# Altium footprint library Passive#csv.PcbLib: 10 footprints
Each footprint in its own frame and in the unit in brackets; x right, y up, seen from the top. Pads: shape width x height; smd on the part's side, far side on the other; paste and mask are expansions set on the pad; w line width, h text height; cw(c..) or ccw(c..) is an arc to the next point about the centre after c.
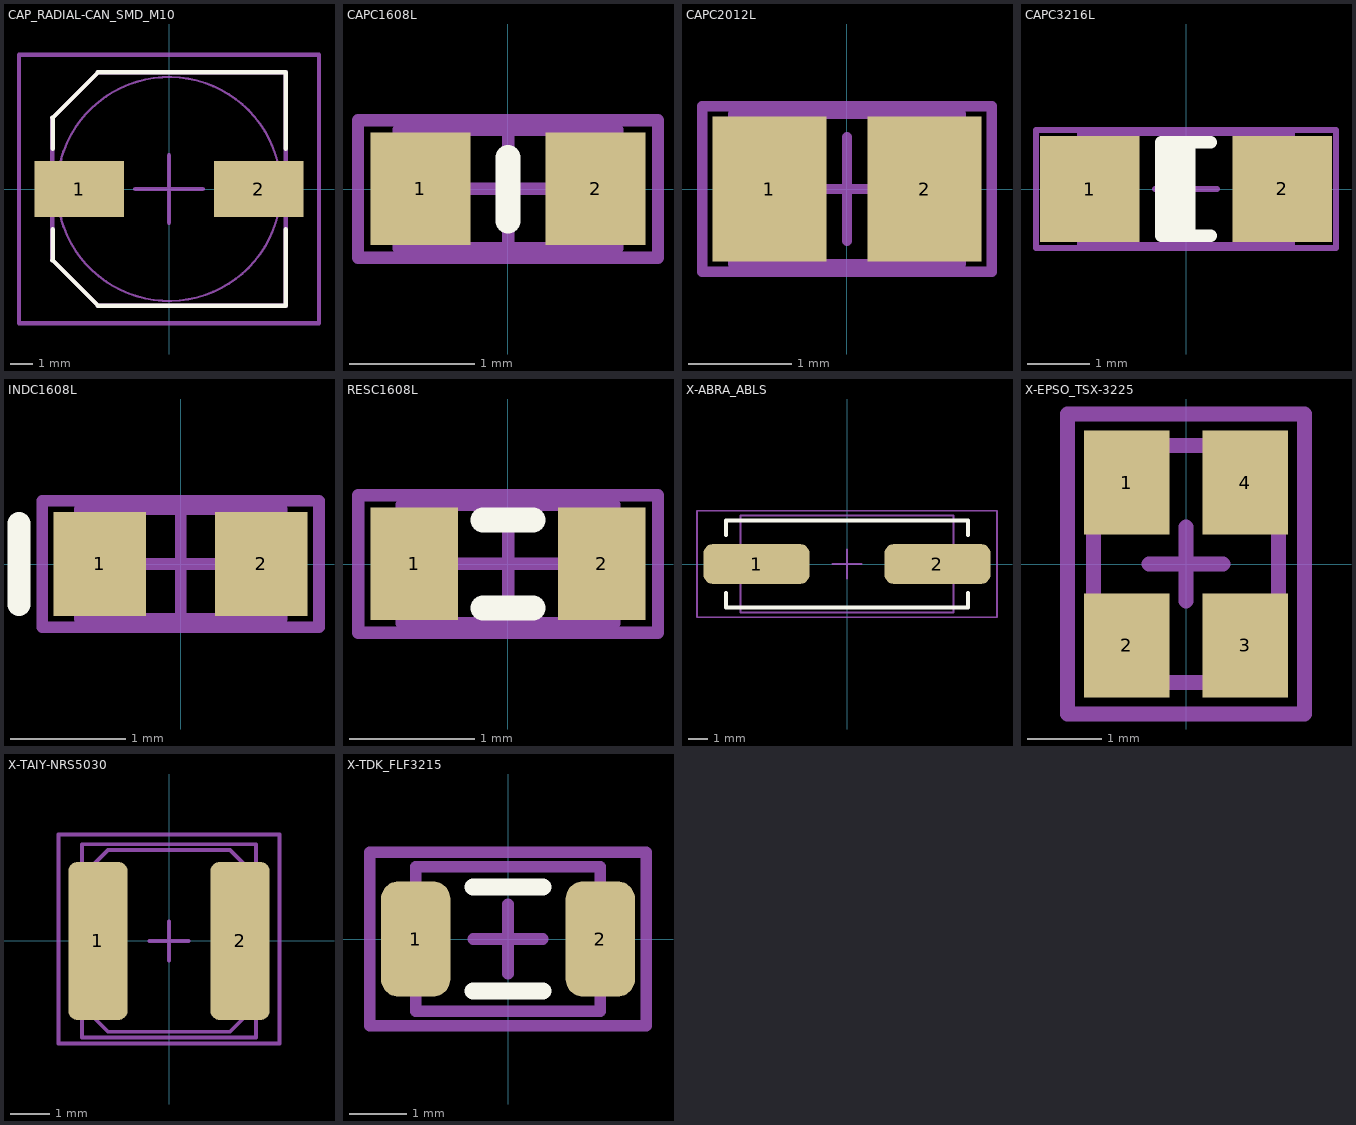
[diagram p0: the footprints below, top view; thin cyan lines are the x and y axes]

## CAP_RADIAL-CAN_SMD_M10 [mm]
pads (2):
  rect 4x2.5 smd: 1(-4,0) 2(4,0)
Top Overlay:
  lines w0.2: -5.2,-1.8 -5.2,-3.175 -5.207,-3.175 -3.175,-5.207 5.207,-5.207 5.207,-1.8 ; -5.2,1.8 -5.2,3.175 -5.207,3.175 -3.175,5.207 5.207,5.207 5.207,1.8
Mechanical 13:
  circle w0.1: c0,0 r5
  lines w0.2: -5.207,-3.175 -3.175,-5.207 5.207,-5.207 5.207,5.207 -3.175,5.207 -5.207,3.175 -5.207,-3.175
Mechanical 15:
  lines w0.2: -1.5,0 1.5,0 ; 0,-1.5 0,1.5 ; -6.7,-6 -6.7,6 6.7,6 6.7,-6 -6.7,-6
3D body: height 11, standoff 1, extent -4.953,-5.027 5.008,4.953
3D body: height 1, standoff 0, extent -5.207,-5.207 5.207,5.207

## CAPC1608L [mm] "Chip Capacitor, Body 1.6x0.8mm, IPC High Density"
height 0.85
pads (2):
  rect 0.8x0.9 smd: 1(-0.7,0) 2(0.7,0)
Top Overlay:
  lines w0.2: 0,-0.254 0,0.254
Mechanical 13:
  lines w0.1: -0.875,-0.475 0.875,-0.475 0.875,0.475 -0.875,0.475 -0.875,-0.475
Mechanical 15:
  lines w0.1: -0.475,0 0.475,0 ; 0,-0.475 0,0.475 ; -1.2,-0.55 1.2,-0.55 1.2,0.55 -1.2,0.55 -1.2,-0.55
3D body: height 0.85, standoff 0, extent -0.875,-0.475 0.875,0.475

## CAPC2012L [mm] "Chip Capacitor, Body 2.0x1.3mm, IPC High Density"
height 1.1
pads (2):
  rect 1.1x1.4 smd: 1(-0.75,0) 2(0.75,0)
Mechanical 13:
  lines w0.1: -1.1,-0.725 -1.1,0.725 1.1,0.725 1.1,-0.725 -1.1,-0.725
Mechanical 15:
  lines w0.1: -0.5,0 0.5,0 ; 0,-0.5 0,0.5 ; -1.4,-0.8 -1.4,0.8 1.4,0.8 1.4,-0.8 -1.4,-0.8
3D body: height 1.1, standoff 0, extent -1.1,-0.725 1.1,0.725

## CAPC3216L [mm] "Chip Capacitor, Body 3.2x1.6mm, IPC High Density"
height 1.35
pads (2):
  rect 1.6x1.7 smd: 1(-1.551,0) 2(1.551,0)
Top Overlay:
  rectangle: -0.4,-0.75 0.15,0.75
  lines w0.2: 0.4,-0.75 -0.4,-0.75 -0.4,0.75 0.4,0.75
Mechanical 13:
  lines w0.1: -1.7,-0.9 1.7,-0.9 1.7,0.9 -1.7,0.9 -1.7,-0.9
Mechanical 15:
  lines w0.1: -0.5,0 0.5,0 ; 0,-0.5 0,0.5 ; -2.413,-0.95 2.413,-0.95 2.413,0.95 -2.413,0.95 -2.413,-0.95
3D body: height 1.35, standoff 0, extent -1.7,-0.9 1.7,0.9

## INDC1608L [mm] "Chip Inductor, Body 1.6x0.8mm, IPC High Density"
height 0.71
pads (2):
  rect 0.8x0.9 smd: 1(-0.7,0) 2(0.7,0)
Top Overlay:
  lines w0.2: -1.4,-0.35 -1.4,0.35
Mechanical 13:
  lines w0.1: -0.875,-0.475 -0.875,0.475 0.875,0.475 0.875,-0.475 -0.875,-0.475
Mechanical 15:
  lines w0.1: -0.475,0 0.475,0 ; 0,-0.475 0,0.475 ; -1.2,-0.55 -1.2,0.55 1.2,0.55 1.2,-0.55 -1.2,-0.55
3D body: height 0.71, standoff 0, extent -0.875,-0.475 0.875,0.475

## RESC1608L [mm] "Chip Resistor, Body 1.6x0.8mm, IPC High Density"
height 0.6
pads (2):
  rect 0.7x0.9 smd: 1(-0.75,0) 2(0.75,0)
Top Overlay:
  lines w0.2: -0.2,-0.35 0.2,-0.35 ; -0.2,0.35 0.2,0.35
Mechanical 13:
  lines w0.1: -0.85,-0.475 0.85,-0.475 0.85,0.475 -0.85,0.475 -0.85,-0.475
Mechanical 15:
  lines w0.1: -0.475,0 0.475,0 ; 0,-0.475 0,0.475 ; -1.2,-0.55 1.2,-0.55 1.2,0.55 -1.2,0.55 -1.2,-0.55
3D body: height 0.6, standoff 0, extent -0.85,-0.475 0.85,0.475

## X-ABRA_ABLS [mil] "SMD Low Profile Crystal"
height 165.35
pads (2):
  rrect50% 220x83 smd: 1(-187,0) 2(187,0)
Top Overlay:
  lines w7.87: -250,-60 -250,-90 250,-90 250,-60 ; -250,60 -250,90 250,90 250,60
Mechanical 13:
  lines w3.94: -220,-100 220,-100 220,100 -220,100 -220,-100
Mechanical 15:
  lines w3.94: -30,0 30,0 ; 0,-30 0,30 ; -310,-110 -310,110 310,110 310,-110 -310,-110
3D body: height 160, standoff -4, extent -250,-90 250,95

## X-EPSO_TSX-3225 [mm] "Miniature crystal unit"
height 0.6
pads (4):
  rect 1.15x1.4 smd: 1(-0.8,1.1) 2(-0.8,-1.1) 3(0.8,-1.1) 4(0.8,1.1)
Mechanical 13:
  lines w0.2: -1.25,-1.6 1.25,-1.6 1.25,1.6 -1.25,1.6 -1.25,-1.6
Mechanical 15:
  lines w0.2: -0.5,0 0.5,0 ; 0,-0.5 0,0.5 ; -1.6,-2.025 1.6,-2.025 1.6,2.025 -1.6,2.025 -1.6,-2.025
3D body: height 0.6, standoff 0, extent -1.249,-1.599 1.249,1.599

## X-TAIY-NRS5030 [mm] "Shielded Inductor"
height 3
pads (2):
  rrect30% 1.5x4 smd: 1(-1.8,0) 2(1.8,0)
Mechanical 13:
  lines w0.1: -2.45,-1.4 -1.55,-2.3 0,-2.3 1.55,-2.3 2.45,-1.4 2.45,1.4 1.55,2.3 0,2.3 -1.55,2.3 -2.45,1.4 -2.45,-1.4 ; -2.2,-2.45 -2.2,2.45 2.2,2.45 2.2,-2.45 -2.2,-2.45
Mechanical 15:
  lines w0.1: -0.5,0 0.5,0 ; 0,-0.5 0,0.5 ; -2.8,-2.6 -2.8,2.7 2.8,2.7 2.8,-2.6 -2.8,-2.6
3D body: height 1.5, standoff 0, extent -2.2,-2.45 2.2,2.45
3D body: height 3, standoff 1.5, extent -2.45,-2.3 2.45,2.3

## X-TDK_FLF3215 [mm] "SMD Inductor, Shielded"
height 1.55
pads (2):
  rrect50% 1.2x2 smd: 1(-1.6,0) 2(1.6,0)
Top Overlay:
  lines w0.3: -0.6,-0.9 0.6,-0.9 ; -0.6,0.9 0.6,0.9
Mechanical 13:
  lines w0.2: -1.6,-1.25 1.6,-1.25 1.6,1.25 -1.6,1.25 -1.6,-1.25
Mechanical 15:
  lines w0.2: -0.6,0 0.6,0 ; 0,-0.6 0,0.6 ; -2.4,-1.5 -2.4,1.5 2.4,1.5 2.4,-1.5 -2.4,-1.5
3D body: height 1.55, standoff 0, extent -1.599,-1.249 1.599,1.249